# Altium integrated library DIODES.IntLib: 37 symbols
Pins are listed as number, name and electrical type; pins without a type are passive.

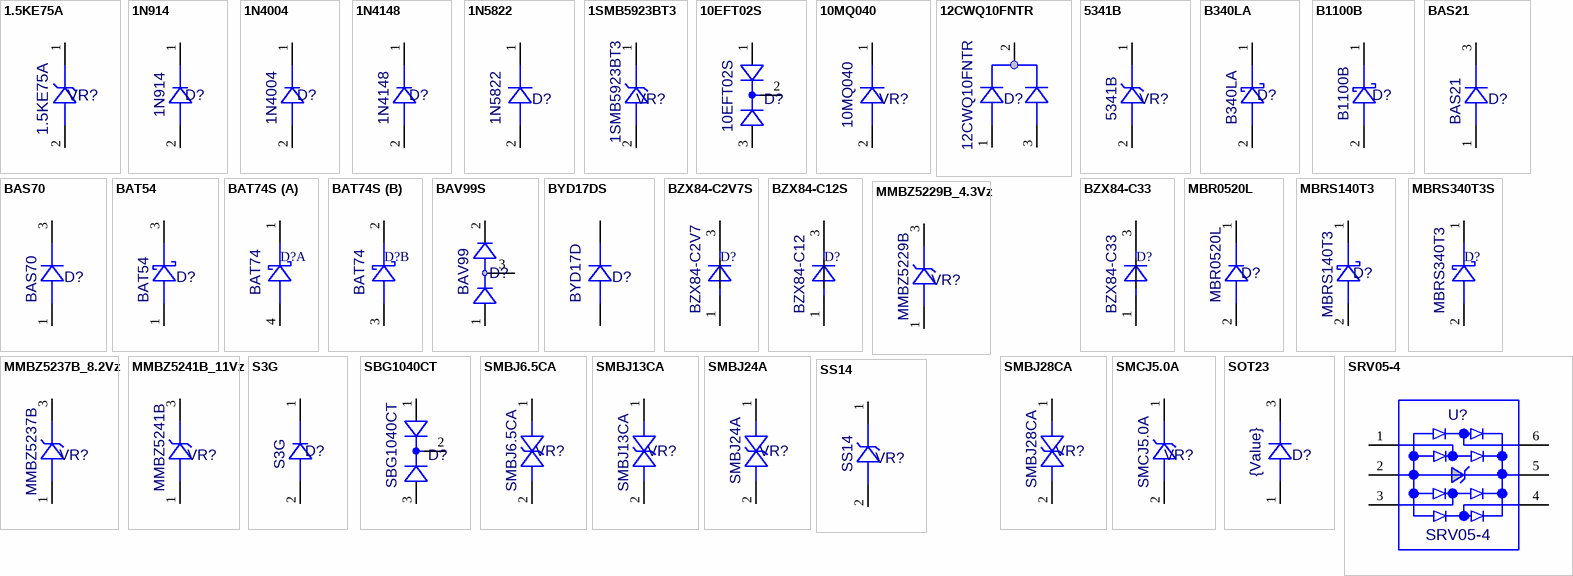
[diagram p0: symbols 1.5KE75A to SS14]

## 1.5KE75A
designator VR?, comment value 1.5KE75A  (hidden comment: 14478-0137)
Diode Zener, 1.5KE75A; ECAD_Revision: 2; Librarian: US; Power Raitng: 10.2V; PartNumber: 14478-0137; Item: *
footprint VR1_W-B (REV. 1)
pins: 1 K, 2 A

## 1N914
designator D?, comment value 1N914  (hidden comment: 60204-0016)
Diode, 1N914; ECAD_Revision: 1; Librarian: US; PartNumber: 60204-0016; Item: *
footprint MLL34 (MIMIMELF)
pins: 1 K, 2 A

## 1N4004
designator D?, comment value 1N4004  (hidden comment: 60204-0024)
Diode, 1N4004; ECAD_Revision: 1; Librarian: US; PartNumber: 60204-0024; Item: *
footprint MLL41 (MIMIMELF)
pins: 1 K, 2 A

## 1N4148
designator D?, comment value 1N4148  (hidden comment: 60204-0040)
Diode, 1N4148; ECAD_Revision: 1; Librarian: US; PartNumber: 60204-0040; Item: *
footprint MLL34 (MIMIMELF)
pins: 1 K, 2 A

## 1N5822
designator D?, comment value 1N5822  (hidden comment: DES040/03A0/HV)
Diode Schottky Rectifier, 1N5822; ECAD_Revision: 1; Librarian: UK; PartNumber: DES040/03A0/HV; Item: *
footprint DO-27 (DO-27, body length 9.5, diameter 5.6, lead diameter 1.3, Rev.1)
pins: 1 K, 2 A

## 1SMB5923BT3
designator VR?, comment value 1SMB5923BT3  (hidden comment: AWT25-500022)
Diode Zener, 1SMB5923BT3; Power Raitng: 8.2V; ECAD_Revision: 2; Librarian: US; PartNumber: AWT25-500022; Item: *; HelpURL: K:\ACCELEDA\PDF Spec Files\Diodes\1SMB5923BT3.pdf
footprint SMB_W/B (DO-214AA With Band)
pins: 1 K, 2 A

## 10EFT02S
designator D?, comment value 10EFT02S  (hidden comment: AWT25-500098)
Diode, 10EFT02S; Power Raitng: 200V; ECAD_Revision: 1; Librarian: US; PartNumber: AWT25-500098; Item: *; HelpURL: K:\ACCELEDA\PDF Spec Files\Diodes\10EFT02S.pdf
footprint D2PAK_SMD-220 (Internaiton Rectifier  Rev. 1)
pins: 1 A, 2 K, 3 A

## 10MQ040
designator VR?, comment value 10MQ040  (hidden comment: DXS040/0140/HV)
Diode Schottky Rectifier, 10MQ040; ECAD_Revision: 1; Librarian: UK; PartNumber: DXS040/0140/HV; Item: *
footprint SMA (Do-214 With Band)
pins: 1 K, 2 A

## 12CWQ10FNTR
designator D?, comment value 12CWQ10FNTR  (hidden comment: DXS100/012A/HV)
Diode, 12 Amp Schottky Rectifier 100V 12CWQ10FNTR; ECAD_Revision: 1; Librarian: UK; PartNumber: DXS100/012A/HV; Item: *; Power Raitng: 100V
footprint DPAK
pins: 1 A1, 2 K, 3 A2

## 5341B
designator VR?, comment value 5341B  (hidden comment: 52596-0035)
Diode Zener, 5341B; ECAD_Revision: 1; Librarian: US; PartNumber: 52596-0035; Item: *
footprint SMA (Do-214 With Band)
pins: 1 K, 2 A

## B340LA
designator D?, comment value B340LA  (hidden comment: 60204-0073)
Diode, B340LA; ECAD_Revision: 1; Librarian: US; PartNumber: 60204-0073; Item: *
footprint SMB_W/B (DO-214AA With Band)
pins: 1 K, 2 A

## B1100B
designator D?, comment value B1100B  (hidden comment: TMP_US_B1100B)
Diode, B1100B; ECAD_Revision: 1; Librarian: US; PartNumber: TMP_US_B1100B; Item: *
footprint SMB_W/B (DO-214AA With Band)
pins: 1 K, 2 A

## BAS21
designator D?, comment value BAS21  (hidden comment: AWT25-500024)
Diode, BAS21; Power Raitng: 250V; ECAD_Revision: 2; Librarian: US; PartNumber: AWT25-500024; Item: *; HelpURL: K:\ACCELEDA\PDF Spec Files\Diodes\BAS21.pdf
footprint SOT23
pins: 1 A, 2 hidden, 3 K

## BAS70
designator D?, comment value BAS70  (hidden comment: AWT25-500050)
Diode, BAS70; Power Raitng: 70V; ECAD_Revision: 2; Librarian: US; PartNumber: AWT25-500050; Item: *; HelpURL: K:\ACCELEDA\PDF Spec Files\Diodes\BAS70.pdf
footprint SOT23
pins: 1 A, 2 hidden, 3 K

## BAT54
designator D?, comment value BAT54  (hidden comment: 60204-0065)
Diode, BAT54; Power Raitng: 30V; ECAD_Revision: 1; Librarian: US; PartNumber: 60204-0065; Item: *; HelpURL: K:\ACCELEDA\PDF Spec Files\Diodes\BAT54.pdf
footprint SOT23
pins: 1 A, 2 hidden, 3 K

## BAT74S
designator D?, comment value BAT74  (hidden comment: DXS030/0A200/JS)
Diode, BAT74; ECAD_Revision: 2; Librarian: UK; PartNumber: DXS030/0A200/JS; HelpURL: *; Item: *; Tolerance: *
footprint SOT143B (SOT-143; 4 Leads; Body 3 x 2.5 mm, inc. leads (LxW max))
part A pins: 1 K, 4 A
part B pins: 2 K, 3 A

## BAV99S
designator D?, comment value BAV99  (hidden comment: DXS070/0A250/A)
Diode, BAV99; ECAD_Revision: 3; Librarian: UK; PartNumber: DXS070/0A250/A; Item: *
footprint SOT23
pins: 1 A, 2 K, 3 C

## BYD17DS
designator D?, comment value BYD17D  (hidden comment: DXS200/01A5/HR)
Rectifier Diode, BYD17D; ECAD_Revision: 1; Librarian: UK; PartNumber: DXS200/01A5/HR; HelpURL: *; Power Rating: *; Tolerance: *
footprint SOD87
pins: 1 K, 2 A

## BZX84-C2V7S
designator D?, comment value BZX84-C2V7  (hidden comment: ZX2V700/0W35A)
Diode, BZX84-C2V7; ECAD_Revision: 1; Librarian: UK; PartNumber: ZX2V700/0W35A; HelpURL: *; Item: *; Tolerance: *
footprint SOT23
pins: 1 A, 2, 3 K

## BZX84-C12S
designator D?, comment value BZX84-C12  (hidden comment: ZX12V00/0W35)
Diode, BZX84-C12; ECAD_Revision: 1; Librarian: UK; PartNumber: ZX12V00/0W35; HelpURL: *; Item: *; Tolerance: *
footprint SOT23
pins: 1 A, 2, 3 K

## BZX84-C33
designator D?, comment value BZX84-C33  (hidden comment: ZX33V00/0W30)
Diode, BZX84-C33; ECAD_Revision: 1; Librarian: UK; PartNumber: ZX33V00/0W30; HelpURL: *; Item: *; Tolerance: *
footprint SOT23
pins: 1 A, 2, 3 K

## MBR0520L
designator D?, comment value MBR0520L  (hidden comment: TMP_US_MBR0520L)
Diode, MBR0520L; ECAD_Revision: 1; Librarian: US; PartNumber: TMP_US_MBR0520L; Item: *; HelpURL: K:\ACCELEDA\PDF Spec Files\Diodes\MBR0520L.PDF
footprint SOD123
pins: 1 K, 2 A

## MBRS140T3
designator D?, comment value MBRS140T3  (hidden comment: 60204-0032)
Diode, MBRS140T3; ECAD_Revision: 2; Librarian: UK; PartNumber: 60204-0032; Item: *
footprint SMB_W-B (DO-214AA With Band, Rev. 1)
pins: 1 K, 2 A

## MBRS340T3S
designator D?, comment value MBRS340T3  (hidden comment: TMP_UK_DXS040/3A00/HV)
Diode, MBRS340T3; ECAD_Revision: 2; Librarian: UK; PartNumber: TMP_UK_DXS040/3A00/HV; HelpURL: *; Item: *; Tolerance: *
footprint CASE403-03 (OnSemi device, body L7.11,W6.1. Rev. 1)
pins: 1 K, 2 A

## MMBZ5229B_4.3Vz
designator VR?, comment value MMBZ5229B  (hidden comment: AWT25-500129)
Diode, Zener MMBZ5229B 4.3Vz; Power Raitng: 350mV; ECAD_Revision: 1; Librarian: US; PartNumber: AWT25-500129; Item: *; HelpURL: K:\ACCELEDA\PDF Spec Files\Diodes\MMBZ52xx.pdf
footprint SOT23
pins: 1 A, 2 hidden, 3 K

## MMBZ5237B_8.2Vz
designator VR?, comment value MMBZ5237B  (hidden comment: AWT25-500136)
Diode, Zener MMBZ5237B 8.2Vz; Power Raitng: 6V5; ECAD_Revision: 1; Librarian: US; PartNumber: AWT25-500136; Item: *; HelpURL: K:\ACCELEDA\PDF Spec Files\Diodes\MMBZ52xx.pdf
footprint SOT23
pins: 1 A, 2 hidden, 3 K

## MMBZ5241B_11Vz
designator VR?, comment value MMBZ5241B  (hidden comment: AWT25-500139)
Diode, Zener MMBZ5241B 11Vz; Power Raitng: 9V1; ECAD_Revision: 1; Librarian: US; PartNumber: AWT25-500139; Item: *; HelpURL: K:\ACCELEDA\PDF Spec Files\Diodes\MMBZ52xx.pdf
footprint SOT23
pins: 1 A, 2 hidden, 3 K

## S3G
designator D?, comment value S3G  (hidden comment: 60204-0057)
Diode, S3G; ECAD_Revision: 1; Librarian: US; PartNumber: 60204-0057; Item: *
footprint SMC_W/B (DO-214AB With Band)
pins: 1 K, 2 A

## SBG1040CT
designator D?, comment value SBG1040CT  (hidden comment: AWT25-500029)
Diode, SBG1040CT; Power Raitng: 40V; ECAD_Revision: 1; Librarian: US; PartNumber: AWT25-500029; Item: *; HelpURL: K:\ACCELEDA\PDF Spec Files\Diodes\SBG1040CT.pdf
footprint D2PAK
pins: 1 A, 2 K, 3 A

## SMBJ6.5CA
designator VR?, comment value SMBJ6.5CA  (hidden comment: 48596-0025)
Diode Zener, SMBJ6.5CA; ECAD_Revision: 1; Librarian: US; PartNumber: 48596-0025; Item: *
footprint SMB (DO-214AA Without Band)
pins: 1 K, 2 A

## SMBJ13CA
designator VR?, comment value SMBJ13CA  (hidden comment: 48596-0058)
Diode Zener, SMBJ13CA; ECAD_Revision: 1; Librarian: US; PartNumber: 48596-0058; Item: *
footprint SMB (DO-214AA Without Band)
pins: 1 K, 2 A

## SMBJ24A
designator VR?, comment value SMBJ24A  (hidden comment: 48596-0041)
Diode Zener, SSMBJ24A; ECAD_Revision: 1; Librarian: US; PartNumber: 48596-0041; Item: *
footprint SMB_W/B (DO-214AA With Band)
pins: 1 K, 2 A

## SMBJ28CA
designator VR?, comment value SMBJ28CA  (hidden comment: 48596-0033)
Diode Zener, SMBJ28CA; ECAD_Revision: 1; Librarian: US; PartNumber: 48596-0033; Item: *
footprint SMB (DO-214AA Without Band)
pins: 1 K, 2 A

## SMCJ5.0A
designator VR?, comment value SMCJ5.0A  (hidden comment: 48596-0017)
Diode Zener, SMCJ5.0A; ECAD_Revision: 1; Librarian: US; PartNumber: 48596-0017; Item: *
footprint SMC_W/B (DO-214AB With Band)
pins: 1 K, 2 A

## SOT23
designator D?, comment value {Value}  (hidden comment: generic footprints)
Diode,; ECAD_Revision: 1; Librarian: US; PartNumber: generic footprints; Item: *
footprint SOT23
pins: 1 A, 2 hidden, 3 K

## SRV05-4
designator U?, comment value SRV05-4  (hidden comment: 60128-0019)
Diode, SRV05-4; ECAD_Revision: 2; Librarian: US; PartNumber: 60128-0019; HelpURL: K:\ACCELEDA\PDF Spec Files\Diodes\SRV05-4.pdf; Item: *
footprint SUPERSOT-6
pins: 1, 2, 3, 4, 5 (power), 6

## SS14
designator VR?, comment value SS14  (hidden comment: 52596-0027)
Diode Zener, SS14; ECAD_Revision: 1; Librarian: US; PartNumber: 52596-0027; Item: *
footprint SMA (Do-214 With Band)
pins: 1 K, 2 A